# EAGLE library part 24LCXX (library v15)
Serial I2C bus eeprom
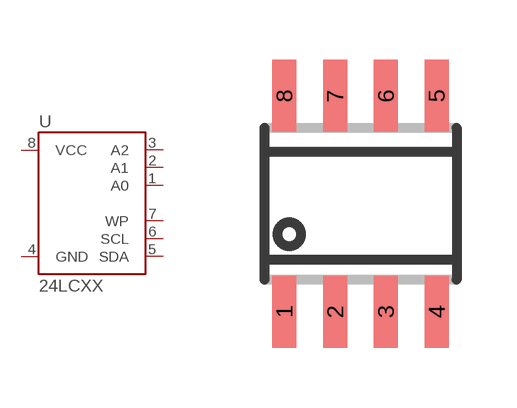
[diagram p9: symbol with the pads of SOIC8; footprint SOIC8]

Designator prefix U

## 24LCXX  [SOIC8]
1  A0  in
2  A1  in
3  A2  in
4  GND  pwr
5  SDA
6  SCL
7  WP  in
8  VCC  pwr

## Footprint SOIC8 (pad centres in mm)
Small Outline IC
smd 0.6 x 1.8: 1 -1.905,-2.7; 2 -0.635,-2.7; 3 0.635,-2.7; 4 1.905,-2.7; 5 1.905,2.7; 6 0.635,2.7; 7 -0.635,2.7; 8 -1.905,2.7